# EAGLE library part ESP-WROOM-02 (library ESP8266)
Espressif ESP-WROOM-02 Wi-Fi Module http://espressif.com/en/products/wroom/
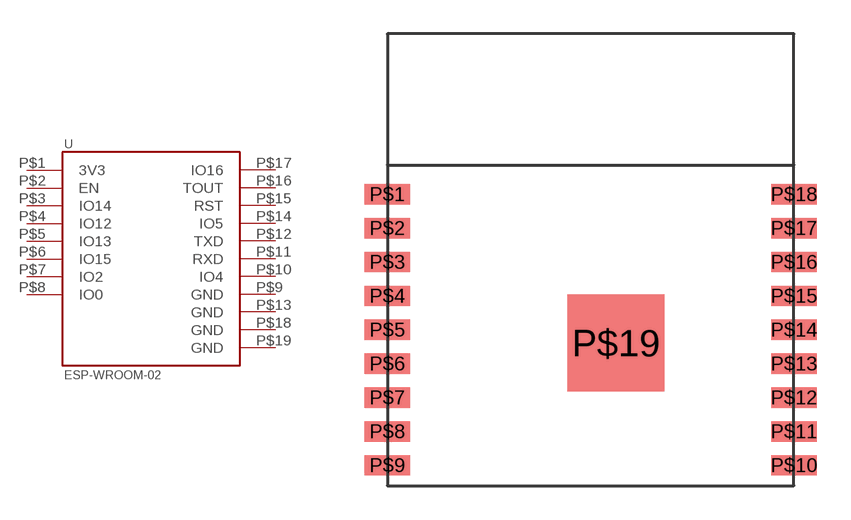
[diagram p0: symbol with the pads of ESP-WROOM-02; footprint ESP-WROOM-02]

Designator prefix -

## ESP-WROOM-02  [ESP-WROOM-02]
P$1  3V3
P$2  EN
P$3  IO14
P$4  IO12
P$5  IO13
P$6  IO15
P$7  IO2
P$8  IO0
P$9  GND
P$10  IO4
P$11  RXD
P$12  TXD
P$13  GND
P$14  IO5
P$15  RST
P$16  TOUT
P$17  IO16
P$18  GND
P$19  GND

## Footprint ESP-WROOM-02 (pad centres in mm)
Espressif ESP8266 ESP-WROOM-02
smd 2 x 0.9: P$1 0,12.9; P$2 0,11.4; P$3 0,9.9; P$4 0,8.4; P$5 0,6.9; P$6 0,5.4; P$7 0,3.9; P$8 0,2.4; P$9 0,0.9; P$10 18,0.9; P$11 18,2.4; P$12 18,3.9; P$13 18,5.4; P$14 18,6.9; P$15 18,8.4; P$16 18,9.9; P$17 18,11.4; P$18 18,12.9
smd 4.3 x 4.3: P$19 10.12,6.32